# Altium footprint library PogoPinPadSide.PcbLib: 2 footprints
Each footprint in its own frame and in the unit in brackets; x right, y up, seen from the top. Pads: shape width x height; smd on the part's side, far side on the other; paste and mask are expansions set on the pad; w line width, h text height; cw(c..) or ccw(c..) is an arc to the next point about the centre after c.
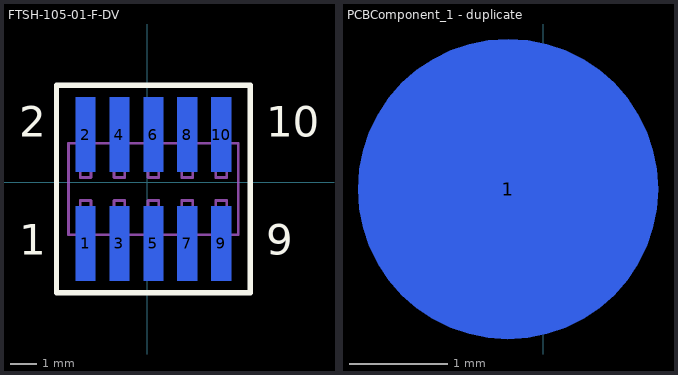
[diagram p0: the footprints below, top view; thin cyan lines are the x and y axes]

## FTSH-105-01-F-DV [mm]
pads (10):
  rect 0.74x2.79 smd far side: 1(-2.31,-2.289) 2(-2.31,1.775) 3(-1.04,-2.289) 4(-1.04,1.775) 5(0.23,-2.289) 6(0.23,1.775) 7(1.5,-2.289) 8(1.5,1.775) 9(2.77,-2.289) 10(2.77,1.775)
Top Overlay:
  lines w0.2: -3.395,-4.135 -3.395,3.621 3.855,3.621 3.855,-4.135 -3.395,-4.135
  text "1" at -4.801,-3.102 h1.97
  text "2" at -4.801,1.318 h1.97
  text "9" at 4.461,-3.102 h1.97
  text "10" at 4.461,1.318 h1.97
Top Paste:
  rectangle: 2.4,-3.684 3.14,-0.894
  rectangle: -2.68,-3.684 -1.94,-0.894
  rectangle: -2.68,0.38 -1.94,3.17
  rectangle: -1.41,-3.684 -0.67,-0.894
  rectangle: -1.41,0.38 -0.67,3.17
  rectangle: -0.14,-3.684 0.6,-0.894
  rectangle: -0.14,0.38 0.6,3.17
  rectangle: 1.13,-3.684 1.87,-0.894
  rectangle: 1.13,0.38 1.87,3.17
  rectangle: 2.4,0.38 3.14,3.17
Mechanical 16:
  lines w0.1: -2.513,-1.971 -2.513,-3.178 -2.107,-3.178 -2.107,-1.971 ; -2.513,-1.108 -2.107,-1.108 ; -2.513,1.457 -2.513,2.664 -2.107,2.664 -2.107,1.457 ; -1.243,-1.971 -1.243,-3.178 -0.837,-3.178 -0.837,-1.971 ; -1.243,-1.108 -0.837,-1.108 ; -1.243,1.457 -1.243,2.664 -0.837,2.664 -0.837,1.457 ; 0.027,-1.971 0.027,-3.178 0.433,-3.178 0.433,-1.971 ; 0.027,-1.108 0.433,-1.108 ; 0.027,1.457 0.027,2.664 0.433,2.664 0.433,1.457 ; 1.297,-1.971 1.297,-3.178 1.703,-3.178 1.703,-1.971 ; 1.297,-1.108 1.703,-1.108 ; 1.297,1.457 1.297,2.664 1.703,2.664 1.703,1.457 ; 2.567,-1.971 2.567,-3.178 2.973,-3.178 2.973,-1.971 ; 2.567,-1.108 2.973,-1.108 ; 2.567,1.457 2.567,2.664 2.973,2.664 2.973,1.457 ; -2.945,-1.971 -1.675,-1.971 -0.405,-1.971 0.865,-1.971 2.135,-1.971 3.405,-1.971 3.405,1.457 2.135,1.457 0.865,1.457 -0.405,1.457 -1.675,1.457 -2.945,1.457 -2.945,-1.971 ; -2.513,-1.095 -2.107,-1.095 -2.107,-0.689 -2.513,-0.689 -2.513,-1.095 ; -2.513,0.175 -2.107,0.175 -2.107,0.581 -2.513,0.581 -2.513,0.175 ; -1.243,-1.095 -0.837,-1.095 -0.837,-0.689 -1.243,-0.689 -1.243,-1.095 ; -1.243,0.175 -0.837,0.175 -0.837,0.581 -1.243,0.581 -1.243,0.175 ; 0.027,-1.095 0.433,-1.095 0.433,-0.689 0.027,-0.689 0.027,-1.095 ; 0.027,0.175 0.433,0.175 0.433,0.581 0.027,0.581 0.027,0.175 ; 1.297,-1.095 1.703,-1.095 1.703,-0.689 1.297,-0.689 1.297,-1.095 ; 1.297,0.175 1.703,0.175 1.703,0.581 1.297,0.581 1.297,0.175 ; 2.567,-1.095 2.973,-1.095 2.973,-0.689 2.567,-0.689 2.567,-1.095 ; 2.567,0.175 2.973,0.175 2.973,0.581 2.567,0.581 2.567,0.175
  text "2" at -4.801,1.318 h1.97
  text "1" at -4.801,-3.102 h1.97
  text "10" at 4.461,1.318 h1.97
  text "9" at 4.461,-3.102 h1.97

## PCBComponent_1 - duplicate [mil]
pads (1):
  round 120 smd far side: 1(-14,-216)